# Altium schematic symbol library kmilo17pet-PIC16_Part2.SchLib: 1569 symbols (part 35 of 56)
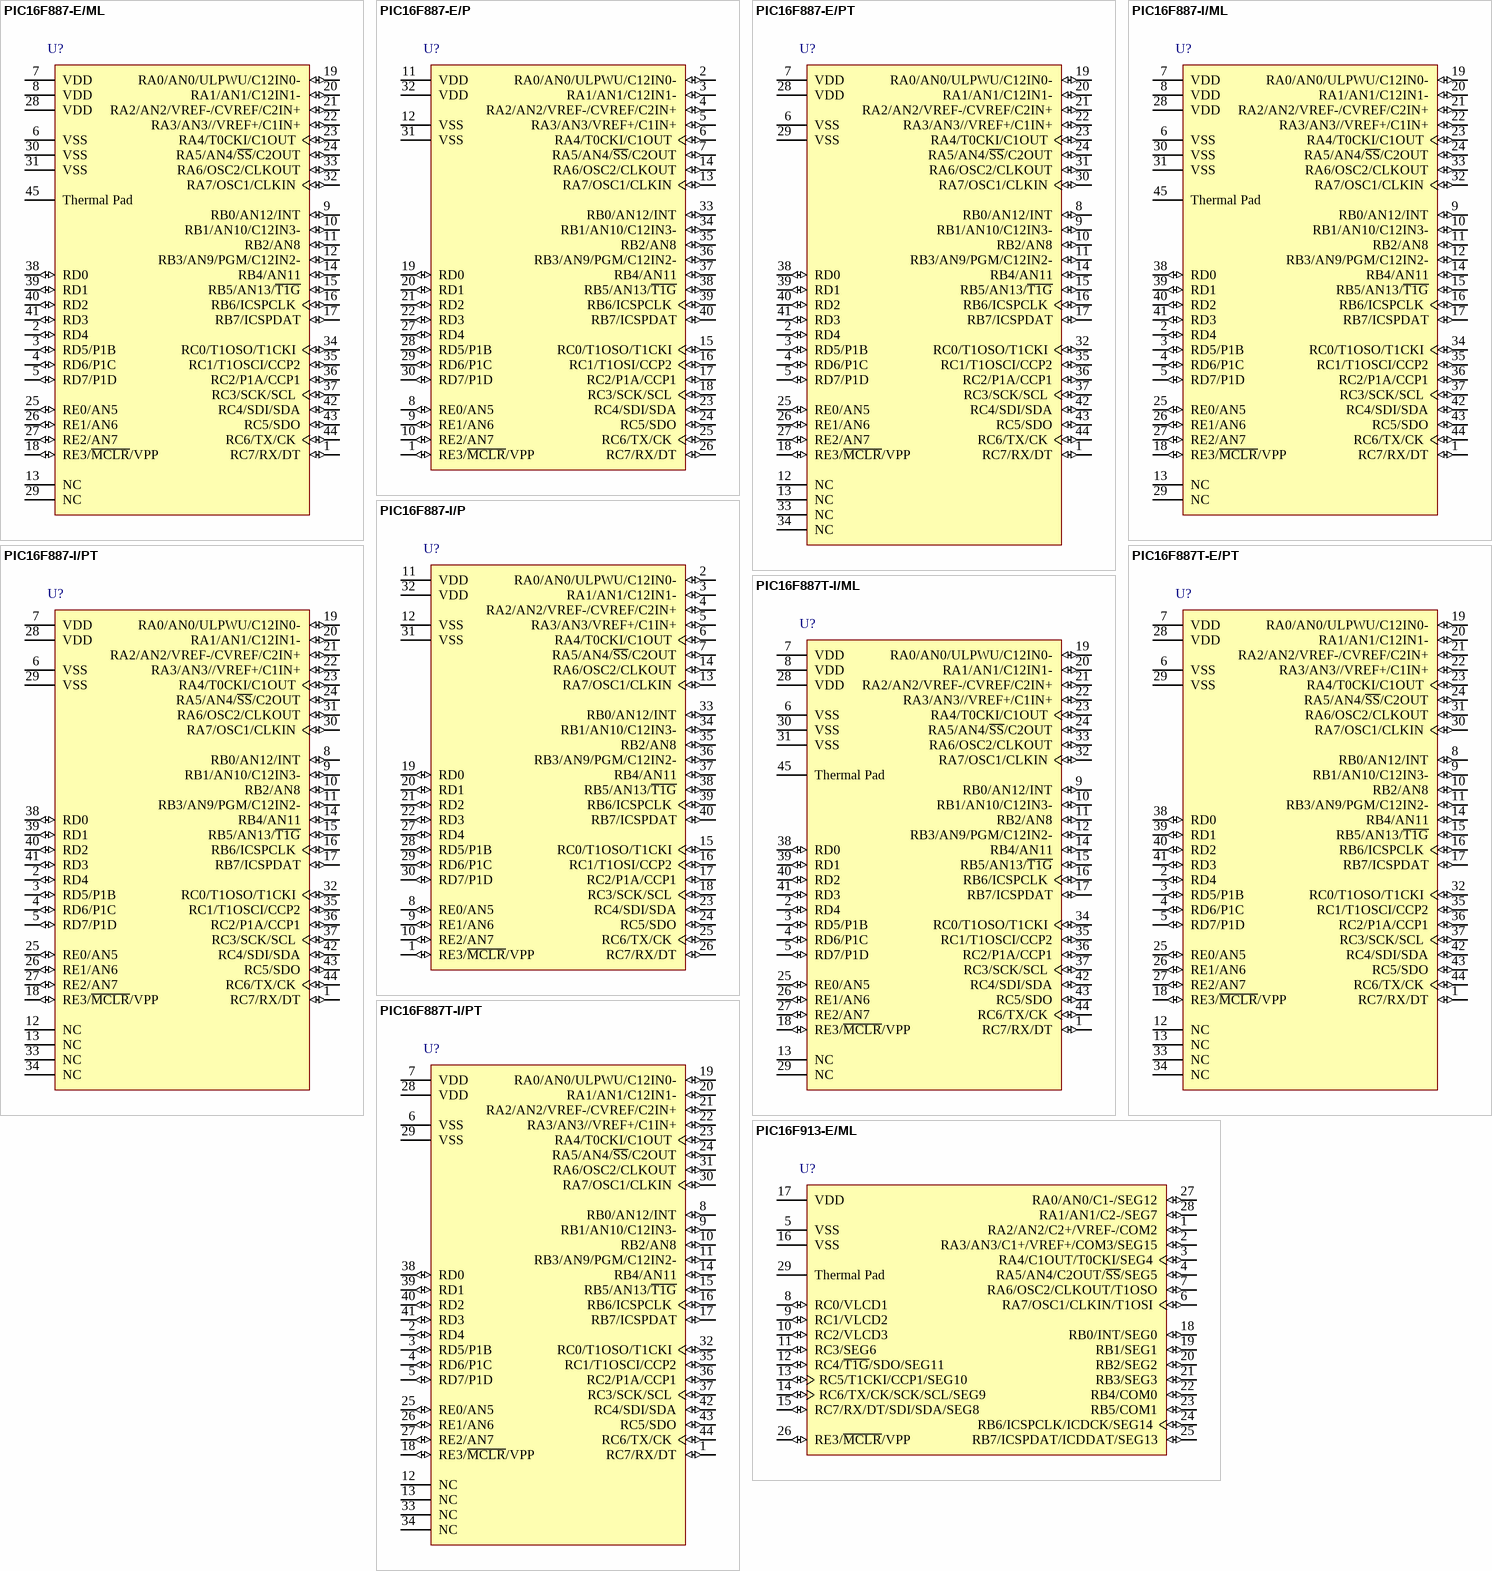
[diagram p159: symbols PIC16F887-E/ML to PIC16F913-E/ML]

## PIC16F887-I/P
designator U?
Flash-Based, 8-Bit CMOS Microcontroller with nanoWatt Technology, 8K (x14-Bit words) Program Memory, 624 Bytes Data Memory, 35 I/O pins, 40-Pin PDIP, Standard VDD Range, Industrial Temperature; Manufacturer: Microchip; PartNumber: PIC16F887-I/P; DatasheetVersion: revF, Apr-2009; PackageVersion: revBB, Aug-2009; PackageReference: PDIP600-P40; PackageDescription: 40-Lead Plastic Dual In-Line (P) - 600 mil Body [PDIP]; Supplier 1: Digi-Key; Supplier Part Number 1: PIC16F887-I/P-ND; Supplier 2: Farnell; Supplier Part Number 2: 1439541; Supplier 3: Newark; Supplier Part Number 3: 27M9657; Supplier 4: Mouser; Supplier Part Number 4: 579-PIC16F887-I/P; ComponentLink1Description: Manufacturer URL; ComponentLink1URL: http://www.microchip.com/; ComponentLink2Description: Datasheet; ComponentLink2URL: http://ww1.microchip.com/downloads/en/DeviceDoc/41291F.pdf; ComponentLink3Description: Package Specification; ComponentLink3URL: http://www.microchip.com/stellent/groups/techpub_sg/documents/packagingspec/en012702.pdf
footprint PDIP600-P40 (DIP, 40-Leads, Row Spacing 15.24mm, Pitch 2.54mm, Body 51.8x13.5mm)
pins: 1 RE3/~{MCLR}/VPP (io), 2 RA0/AN0/ULPWU/C12IN0- (io), 3 RA1/AN1/C12IN1- (io), 4 RA2/AN2/VREF-/CVREF/C2IN+ (io), 5 RA3/AN3/VREF+/C1IN+ (io), 6 RA4/T0CKI/C1OUT (io), 7 RA5/AN4/~{SS}/C2OUT (io), 8 RE0/AN5 (io), 9 RE1/AN6 (io), 10 RE2/AN7 (io), 11 VDD (power), 12 VSS (power), 13 RA7/OSC1/CLKIN (io), 14 RA6/OSC2/CLKOUT (io), 15 RC0/T1OSO/T1CKI (io), 16 RC1/T1OSI/CCP2 (io), 17 RC2/P1A/CCP1 (io), 18 RC3/SCK/SCL (io), 19 RD0 (io), 20 RD1 (io), 21 RD2 (io), 22 RD3 (io), 23 RC4/SDI/SDA (io), 24 RC5/SDO (io), 25 RC6/TX/CK (io), 26 RC7/RX/DT (io), 27 RD4 (io), 28 RD5/P1B (io), 29 RD6/P1C (io), 30 RD7/P1D (io), 31 VSS (power), 32 VDD (power), 33 RB0/AN12/INT (io), 34 RB1/AN10/C12IN3- (io), 35 RB2/AN8 (io), 36 RB3/AN9/PGM/C12IN2- (io), 37 RB4/AN11 (io), 38 RB5/AN13/~{T1G} (io), 39 RB6/ICSPCLK (io), 40 RB7/ICSPDAT (io)

## PIC16F887-I/PT
designator U?
Flash-Based, 8-Bit CMOS Microcontroller with nanoWatt Technology, 8K (x14-Bit words) Program Memory, 624 Bytes Data Memory, 35 I/O pins, 44-Pin TQFP, Standard VDD Range, Industrial Temperature; Manufacturer: Microchip; PartNumber: PIC16F887-I/PT; DatasheetVersion: revF, Apr-2009; PackageVersion: revBB, Aug-2009; PackageReference: TQFP-PT44; PackageDescription: 44-Lead Plastic Thin Quad Flatpack (PT) - 10x10x1mm Body, 2.00mm [TQFP]; Supplier 1: Digi-Key; Supplier Part Number 1: PIC16F887-I/PT-ND; Supplier 2: Farnell; Supplier Part Number 2: 1668740; Supplier 3: Farnell; Supplier Part Number 3: 1439542MPKG; Supplier 4: Farnell; Supplier Part Number 4: 1439542; Supplier 5: Farnell; Supplier Part Number 5: 1668740MPKG; Supplier 6: Newark; Supplier Part Number 6: 74K8587; Supplier 7: Mouser; Supplier Part Number 7: 579-PIC16F887-I/PT; Code_JEDEC: MS-026; ComponentLink1Description: Manufacturer URL; ComponentLink1URL: http://www.microchip.com/; ComponentLink2Description: Datasheet; ComponentLink2URL: http://ww1.microchip.com/downloads/en/DeviceDoc/41291F.pdf; ComponentLink3Description: Package Specification; ComponentLink3URL: http://www.microchip.com/stellent/groups/techpub_sg/documents/packagingspec/en012702.pdf
footprint TQFP-PT44_N (Thin QFP, 44-Leads, Body 10x10mm, Pitch 0.8mm, IPC Medium Density)
footprint TQFP-PT44_L (Thin QFP, 44-Leads, Body 10x10mm, Pitch 0.8mm, IPC High Density)
footprint TQFP-PT44_M (Thin QFP, 44-Leads, Body 10x10mm, Pitch 0.8mm, IPC Low Density)
pins: 1 RC7/RX/DT (io), 2 RD4 (io), 3 RD5/P1B (io), 4 RD6/P1C (io), 5 RD7/P1D (io), 6 VSS (power), 7 VDD (power), 8 RB0/AN12/INT (io), 9 RB1/AN10/C12IN3- (io), 10 RB2/AN8 (io), 11 RB3/AN9/PGM/C12IN2- (io), 12 NC, 13 NC, 14 RB4/AN11 (io), 15 RB5/AN13/~{T1G} (io), 16 RB6/ICSPCLK (io), 17 RB7/ICSPDAT (io), 18 RE3/~{MCLR}/VPP (io), 19 RA0/AN0/ULPWU/C12IN0- (io), 20 RA1/AN1/C12IN1- (io), 21 RA2/AN2/VREF-/CVREF/C2IN+ (io), 22 RA3/AN3//VREF+/C1IN+ (io), 23 RA4/T0CKI/C1OUT (io), 24 RA5/AN4/~{SS}/C2OUT (io), 25 RE0/AN5 (io), 26 RE1/AN6 (io), 27 RE2/AN7 (io), 28 VDD (power), 29 VSS (power), 30 RA7/OSC1/CLKIN (io), 31 RA6/OSC2/CLKOUT (io), 32 RC0/T1OSO/T1CKI (io), 33 NC, 34 NC, 35 RC1/T1OSCI/CCP2 (io), 36 RC2/P1A/CCP1 (io), 37 RC3/SCK/SCL (io), 38 RD0 (io), 39 RD1 (io), 40 RD2 (io), 41 RD3 (io), 42 RC4/SDI/SDA (io), 43 RC5/SDO (io), 44 RC6/TX/CK (io)

## PIC16F887T-E/PT
designator U?
Flash-Based, 8-Bit CMOS Microcontroller with nanoWatt Technology, 8K (x14-Bit words) Program Memory, 624 Bytes Data Memory, 35 I/O pins, 44-Pin TQFP, Standard VDD Range, Extended Temperature, Tape and Reel; Manufacturer: Microchip; PartNumber: PIC16F887T-E/PT; DatasheetVersion: revF, Apr-2009; PackageVersion: revBB, Aug-2009; PackageReference: TQFP-PT44; PackageDescription: 44-Lead Plastic Thin Quad Flatpack (PT) - 10x10x1mm Body, 2.00mm [TQFP]; Code_JEDEC: MS-026; ComponentLink1Description: Manufacturer URL; ComponentLink1URL: http://www.microchip.com/; ComponentLink2Description: Datasheet; ComponentLink2URL: http://ww1.microchip.com/downloads/en/DeviceDoc/41291F.pdf; ComponentLink3Description: Package Specification; ComponentLink3URL: http://www.microchip.com/stellent/groups/techpub_sg/documents/packagingspec/en012702.pdf
footprint TQFP-PT44_N (Thin QFP, 44-Leads, Body 10x10mm, Pitch 0.8mm, IPC Medium Density)
footprint TQFP-PT44_L (Thin QFP, 44-Leads, Body 10x10mm, Pitch 0.8mm, IPC High Density)
footprint TQFP-PT44_M (Thin QFP, 44-Leads, Body 10x10mm, Pitch 0.8mm, IPC Low Density)
pins: 1 RC7/RX/DT (io), 2 RD4 (io), 3 RD5/P1B (io), 4 RD6/P1C (io), 5 RD7/P1D (io), 6 VSS (power), 7 VDD (power), 8 RB0/AN12/INT (io), 9 RB1/AN10/C12IN3- (io), 10 RB2/AN8 (io), 11 RB3/AN9/PGM/C12IN2- (io), 12 NC, 13 NC, 14 RB4/AN11 (io), 15 RB5/AN13/~{T1G} (io), 16 RB6/ICSPCLK (io), 17 RB7/ICSPDAT (io), 18 RE3/~{MCLR}/VPP (io), 19 RA0/AN0/ULPWU/C12IN0- (io), 20 RA1/AN1/C12IN1- (io), 21 RA2/AN2/VREF-/CVREF/C2IN+ (io), 22 RA3/AN3//VREF+/C1IN+ (io), 23 RA4/T0CKI/C1OUT (io), 24 RA5/AN4/~{SS}/C2OUT (io), 25 RE0/AN5 (io), 26 RE1/AN6 (io), 27 RE2/AN7 (io), 28 VDD (power), 29 VSS (power), 30 RA7/OSC1/CLKIN (io), 31 RA6/OSC2/CLKOUT (io), 32 RC0/T1OSO/T1CKI (io), 33 NC, 34 NC, 35 RC1/T1OSCI/CCP2 (io), 36 RC2/P1A/CCP1 (io), 37 RC3/SCK/SCL (io), 38 RD0 (io), 39 RD1 (io), 40 RD2 (io), 41 RD3 (io), 42 RC4/SDI/SDA (io), 43 RC5/SDO (io), 44 RC6/TX/CK (io)

## PIC16F887T-I/ML
designator U?
Flash-Based, 8-Bit CMOS Microcontroller with nanoWatt Technology, 8K (x14-Bit words) Program Memory, 624 Bytes Data Memory, 35 I/O pins, 44-Pin QFN, Standard VDD Range, Industrial Temperature, Tape and Reel; Manufacturer: Microchip; PartNumber: PIC16F887T-I/ML; DatasheetVersion: revF, Apr-2009; PackageVersion: revBB, Aug-2009; PackageReference: QFN-ML44; PackageDescription: 44-Lead Plastic Quad Flat, No Lead Package (ML) - 8x8 mm Body [QFN]; Supplier 1: Digi-Key; Supplier Part Number 1: PIC16F887T-I/ML-ND; Supplier 2: Mouser; Supplier Part Number 2: 579-PIC16F887T-I/ML; Code_JEDEC: MO-220; Code_IPC: QFN65P800X800-44V2; ComponentLink1Description: Manufacturer URL; ComponentLink1URL: http://www.microchip.com/; ComponentLink2Description: Datasheet; ComponentLink2URL: http://ww1.microchip.com/downloads/en/DeviceDoc/41291F.pdf; ComponentLink3Description: Package Specification; ComponentLink3URL: http://www.microchip.com/stellent/groups/techpub_sg/documents/packagingspec/en012702.pdf
footprint QFN-ML44_N (QFN, 44-Leads, Body 8x8mm, Pitch 0.65mm, Thermal Pad 6.8x6.8mm, IPC Medium Density)
footprint QFN-ML44_L (QFN, 44-Leads, Body 8x8mm, Pitch 0.65mm, Thermal Pad 6.8x6.8mm, IPC High Density)
footprint QFN-ML44_M (QFN, 44-Leads, Body 8x8mm, Pitch 0.65mm, Thermal Pad 6.8x6.8mm, IPC Low Density)
pins: 1 RC7/RX/DT (io), 2 RD4 (io), 3 RD5/P1B (io), 4 RD6/P1C (io), 5 RD7/P1D (io), 6 VSS (power), 7 VDD (power), 8 VDD (power), 9 RB0/AN12/INT (io), 10 RB1/AN10/C12IN3- (io), 11 RB2/AN8 (io), 12 RB3/AN9/PGM/C12IN2- (io), 13 NC, 14 RB4/AN11 (io), 15 RB5/AN13/~{T1G} (io), 16 RB6/ICSPCLK (io), 17 RB7/ICSPDAT (io), 18 RE3/~{MCLR}/VPP (io), 19 RA0/AN0/ULPWU/C12IN0- (io), 20 RA1/AN1/C12IN1- (io), 21 RA2/AN2/VREF-/CVREF/C2IN+ (io), 22 RA3/AN3//VREF+/C1IN+ (io), 23 RA4/T0CKI/C1OUT (io), 24 RA5/AN4/~{SS}/C2OUT (io), 25 RE0/AN5 (io), 26 RE1/AN6 (io), 27 RE2/AN7 (io), 28 VDD (power), 29 NC, 30 VSS (power), 31 VSS (power), 32 RA7/OSC1/CLKIN (io), 33 RA6/OSC2/CLKOUT (io), 34 RC0/T1OSO/T1CKI (io), 35 RC1/T1OSCI/CCP2 (io), 36 RC2/P1A/CCP1 (io), 37 RC3/SCK/SCL (io), 38 RD0 (io), 39 RD1 (io), 40 RD2 (io), 41 RD3 (io), 42 RC4/SDI/SDA (io), 43 RC5/SDO (io), 44 RC6/TX/CK (io), 45 Thermal Pad

## PIC16F887T-I/PT
designator U?
Flash-Based, 8-Bit CMOS Microcontroller with nanoWatt Technology, 8K (x14-Bit words) Program Memory, 624 Bytes Data Memory, 35 I/O pins, 44-Pin TQFP, Standard VDD Range, Industrial Temperature, Tape and Reel; Manufacturer: Microchip; PartNumber: PIC16F887T-I/PT; Note: The CCP1 pin is determined by CCPMX in Configuration Word 1 register.; DatasheetVersion: revF, Apr-2009; PackageVersion: revBB, Aug-2009; PackageReference: TQFP-PT44; PackageDescription: 44-Lead Plastic Thin Quad Flatpack (PT) - 10x10x1mm Body, 2.00mm [TQFP]; Supplier 1: Digi-Key; Supplier Part Number 1: PIC16F887T-I/PT-ND; Supplier 2: Newark; Supplier Part Number 2: 86W6453; Supplier 3: Newark; Supplier Part Number 3: 74K8589; Supplier 4: Mouser; Supplier Part Number 4: 579-PIC16F887T-I/PT; Code_JEDEC: MS-026; ComponentLink1Description: Manufacturer URL; ComponentLink1URL: http://www.microchip.com/; ComponentLink2Description: Datasheet; ComponentLink2URL: http://ww1.microchip.com/downloads/en/DeviceDoc/41291F.pdf; ComponentLink3Description: Package Specification; ComponentLink3URL: http://www.microchip.com/stellent/groups/techpub_sg/documents/packagingspec/en012702.pdf
footprint TQFP-PT44_N (Thin QFP, 44-Leads, Body 10x10mm, Pitch 0.8mm, IPC Medium Density)
footprint TQFP-PT44_L (Thin QFP, 44-Leads, Body 10x10mm, Pitch 0.8mm, IPC High Density)
footprint TQFP-PT44_M (Thin QFP, 44-Leads, Body 10x10mm, Pitch 0.8mm, IPC Low Density)
pins: 1 RC7/RX/DT (io), 2 RD4 (io), 3 RD5/P1B (io), 4 RD6/P1C (io), 5 RD7/P1D (io), 6 VSS (power), 7 VDD (power), 8 RB0/AN12/INT (io), 9 RB1/AN10/C12IN3- (io), 10 RB2/AN8 (io), 11 RB3/AN9/PGM/C12IN2- (io), 12 NC, 13 NC, 14 RB4/AN11 (io), 15 RB5/AN13/~{T1G} (io), 16 RB6/ICSPCLK (io), 17 RB7/ICSPDAT (io), 18 RE3/~{MCLR}/VPP (io), 19 RA0/AN0/ULPWU/C12IN0- (io), 20 RA1/AN1/C12IN1- (io), 21 RA2/AN2/VREF-/CVREF/C2IN+ (io), 22 RA3/AN3//VREF+/C1IN+ (io), 23 RA4/T0CKI/C1OUT (io), 24 RA5/AN4/~{SS}/C2OUT (io), 25 RE0/AN5 (io), 26 RE1/AN6 (io), 27 RE2/AN7 (io), 28 VDD (power), 29 VSS (power), 30 RA7/OSC1/CLKIN (io), 31 RA6/OSC2/CLKOUT (io), 32 RC0/T1OSO/T1CKI (io), 33 NC, 34 NC, 35 RC1/T1OSCI/CCP2 (io), 36 RC2/P1A/CCP1 (io), 37 RC3/SCK/SCL (io), 38 RD0 (io), 39 RD1 (io), 40 RD2 (io), 41 RD3 (io), 42 RC4/SDI/SDA (io), 43 RC5/SDO (io), 44 RC6/TX/CK (io)

## PIC16F913-E/ML
designator U?
Flash-Based, 8-Bit CMOS Microcontroller with LCD Driver and nanoWatt Technology, 4K (x14-Bit words) Program Memory, 512 Bytes Data Memory, 24 I/O pins, 28-Pin QFN, Standard VDD Range, Extended Temperature; Manufacturer: Microchip; PartNumber: PIC16F913-E/ML; DatasheetVersion: revF, May-2007; PackageVersion: revBB, Aug-2009; PackageReference: QFN-ML28; PackageDescription: 28-Lead Plastic Quad Flat, No Lead Package (ML) - 6x6 mm Body [QFN] with 0.55 mm Contact Length; Supplier 1: Digi-Key; Supplier Part Number 1: PIC16F913-E/ML-ND; Supplier 2: Mouser; Supplier Part Number 2: 579-PIC16F913-E/ML; Code_JEDEC: MO-220; ComponentLink1Description: Manufacturer URL; ComponentLink1URL: http://www.microchip.com/; ComponentLink2Description: Datasheet; ComponentLink2URL: http://ww1.microchip.com/downloads/en/DeviceDoc/41250F.pdf; ComponentLink3Description: Package Specification; ComponentLink3URL: http://www.microchip.com/stellent/groups/techpub_sg/documents/packagingspec/en012702.pdf
footprint QFN-ML28_N (QFN, 28-Leads, Body 6x6mm, Pitch 0.65mm, Thermal Pad 4.2x4.2mm, IPC Medium Density)
footprint QFN-ML28_L (QFN, 28-Leads, Body 6x6mm, Pitch 0.65mm, Thermal Pad 4.2x4.2mm, IPC High Density)
footprint QFN-ML28_M (QFN, 28-Leads, Body 6x6mm, Pitch 0.65mm, Thermal Pad 4.2x4.2mm, IPC Low Density)
pins: 1 RA2/AN2/C2+/VREF-/COM2 (io), 2 RA3/AN3/C1+/VREF+/COM3/SEG15 (io), 3 RA4/C1OUT/T0CKI/SEG4 (io), 4 RA5/AN4/C2OUT/~{SS}/SEG5 (io), 5 VSS (power), 6 RA7/OSC1/CLKIN/T1OSI (io), 7 RA6/OSC2/CLKOUT/T1OSO (io), 8 RC0/VLCD1 (io), 9 RC1/VLCD2 (io), 10 RC2/VLCD3 (io), 11 RC3/SEG6 (io), 12 RC4/~{T1G}/SDO/SEG11 (io), 13 RC5/T1CKI/CCP1/SEG10 (io), 14 RC6/TX/CK/SCK/SCL/SEG9 (io), 15 RC7/RX/DT/SDI/SDA/SEG8 (io), 16 VSS (power), 17 VDD (power), 18 RB0/INT/SEG0 (io), 19 RB1/SEG1 (io), 20 RB2/SEG2 (io), 21 RB3/SEG3 (io), 22 RB4/COM0 (io), 23 RB5/COM1 (io), 24 RB6/ICSPCLK/ICDCK/SEG14 (io), 25 RB7/ICSPDAT/ICDDAT/SEG13 (io), 26 RE3/~{MCLR}/VPP (io), 27 RA0/AN0/C1-/SEG12 (io), 28 RA1/AN1/C2-/SEG7 (io), 29 Thermal Pad

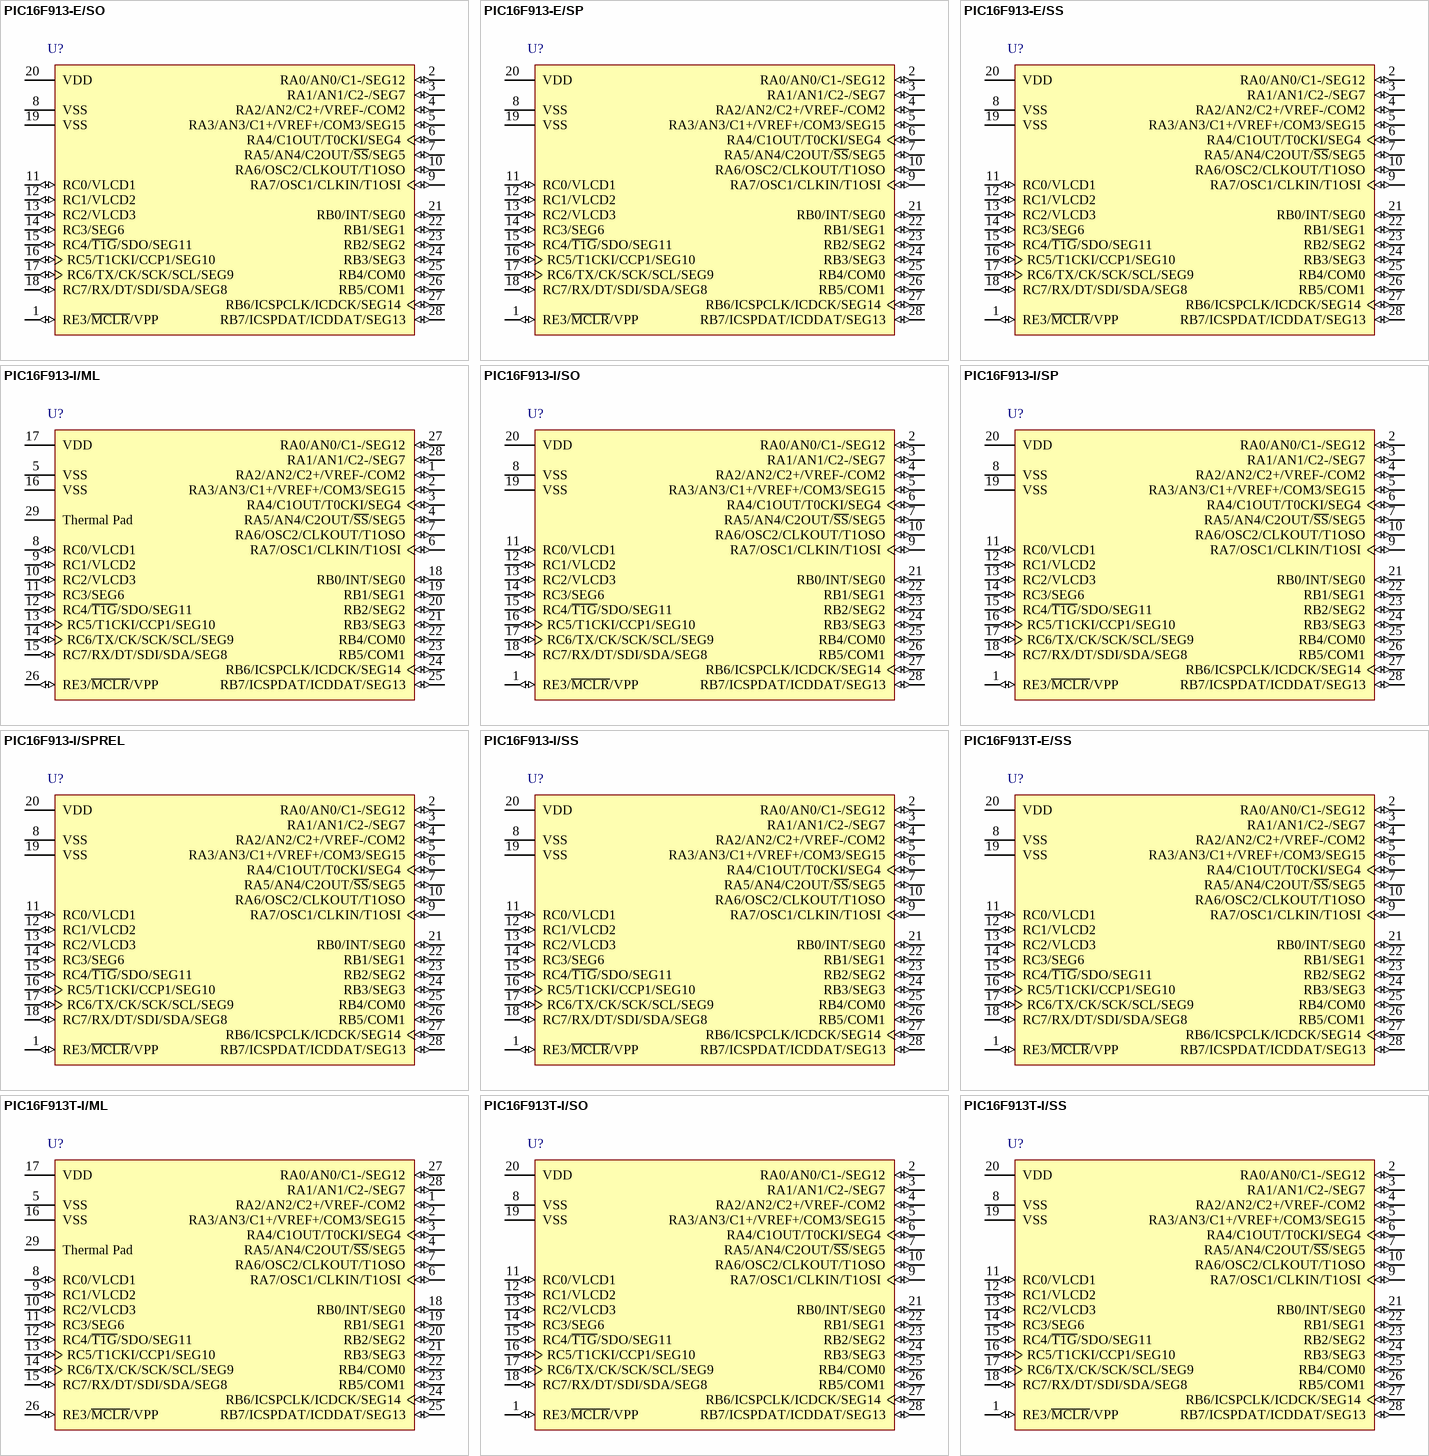
[diagram p71: symbols PIC16F913-E/SO to PIC16F913T-I/SS]

## PIC16F913-E/SO
designator U?
Flash-Based, 8-Bit CMOS Microcontroller with LCD Driver and nanoWatt Technology, 4K (x14-Bit words) Program Memory, 512 Bytes Data Memory, 24 I/O pins, 28-Pin SOIC, Standard VDD Range, Extended Temperature; Manufacturer: Microchip; PartNumber: PIC16F913-E/SO; DatasheetVersion: revF, May-2007; PackageVersion: revBB, Aug-2009; PackageReference: SOIC-SO28; PackageDescription: 28-Lead Plastic Small Outline (SO) - Wide 7.50mm Body [SOIC]; Supplier 1: Digi-Key; Supplier Part Number 1: PIC16F913-E/SO-ND; Supplier 2: Mouser; Supplier Part Number 2: 579-PIC16F913-E/SO; Code_JEDEC: MS-013; ComponentLink1Description: Manufacturer URL; ComponentLink1URL: http://www.microchip.com/; ComponentLink2Description: Datasheet; ComponentLink2URL: http://ww1.microchip.com/downloads/en/DeviceDoc/41250F.pdf; ComponentLink3Description: Package Specification; ComponentLink3URL: http://www.microchip.com/stellent/groups/techpub_sg/documents/packagingspec/en012702.pdf
footprint SOIC-SO28_N (SOIC, 28-Leads, Body 17.9x7.5mm, Pitch 1.27mm, IPC Medium Density)
footprint SOIC-SO28_L (SOIC, 28-Leads, Body 17.9x7.5mm, Pitch 1.27mm, IPC High Density)
footprint SOIC-SO28_M (SOIC, 28-Leads, Body 17.9x7.5mm, Pitch 1.27mm, IPC Low Density)
pins: 1 RE3/~{MCLR}/VPP (io), 2 RA0/AN0/C1-/SEG12 (io), 3 RA1/AN1/C2-/SEG7 (io), 4 RA2/AN2/C2+/VREF-/COM2 (io), 5 RA3/AN3/C1+/VREF+/COM3/SEG15 (io), 6 RA4/C1OUT/T0CKI/SEG4 (io), 7 RA5/AN4/C2OUT/~{SS}/SEG5 (io), 8 VSS (power), 9 RA7/OSC1/CLKIN/T1OSI (io), 10 RA6/OSC2/CLKOUT/T1OSO (io), 11 RC0/VLCD1 (io), 12 RC1/VLCD2 (io), 13 RC2/VLCD3 (io), 14 RC3/SEG6 (io), 15 RC4/~{T1G}/SDO/SEG11 (io), 16 RC5/T1CKI/CCP1/SEG10 (io), 17 RC6/TX/CK/SCK/SCL/SEG9 (io), 18 RC7/RX/DT/SDI/SDA/SEG8 (io), 19 VSS (power), 20 VDD (power), 21 RB0/INT/SEG0 (io), 22 RB1/SEG1 (io), 23 RB2/SEG2 (io), 24 RB3/SEG3 (io), 25 RB4/COM0 (io), 26 RB5/COM1 (io), 27 RB6/ICSPCLK/ICDCK/SEG14 (io), 28 RB7/ICSPDAT/ICDDAT/SEG13 (io)

## PIC16F913-E/SP
designator U?
Flash-Based, 8-Bit CMOS Microcontroller with LCD Driver and nanoWatt Technology, 4K (x14-Bit words) Program Memory, 512 Bytes Data Memory, 24 I/O pins, 28-Pin SPDIP, Standard VDD Range, Extended Temperature; Manufacturer: Microchip; PartNumber: PIC16F913-E/SP; DatasheetVersion: revF, May-2007; PackageVersion: revBB, Aug-2009; PackageReference: SPDIP300-SP28; PackageDescription: 28-Lead Skinny Plastic Dual In-Line (SP) - 300 mil Body [SPDIP]; Supplier 1: Digi-Key; Supplier Part Number 1: PIC16F913-E/SP-ND; Supplier 2: Mouser; Supplier Part Number 2: 579-PIC16F913-E/SP; ComponentLink1Description: Manufacturer URL; ComponentLink1URL: http://www.microchip.com/; ComponentLink2Description: Datasheet; ComponentLink2URL: http://ww1.microchip.com/downloads/en/DeviceDoc/41250F.pdf; ComponentLink3Description: Package Specification; ComponentLink3URL: http://www.microchip.com/stellent/groups/techpub_sg/documents/packagingspec/en012702.pdf
footprint SPDIP300-SP28 (DIP, 28-Leads, Row Spacing 7.62mm, Pitch 2.54mm, Body 34.9x6.8mm)
pins: 1 RE3/~{MCLR}/VPP (io), 2 RA0/AN0/C1-/SEG12 (io), 3 RA1/AN1/C2-/SEG7 (io), 4 RA2/AN2/C2+/VREF-/COM2 (io), 5 RA3/AN3/C1+/VREF+/COM3/SEG15 (io), 6 RA4/C1OUT/T0CKI/SEG4 (io), 7 RA5/AN4/C2OUT/~{SS}/SEG5 (io), 8 VSS (power), 9 RA7/OSC1/CLKIN/T1OSI (io), 10 RA6/OSC2/CLKOUT/T1OSO (io), 11 RC0/VLCD1 (io), 12 RC1/VLCD2 (io), 13 RC2/VLCD3 (io), 14 RC3/SEG6 (io), 15 RC4/~{T1G}/SDO/SEG11 (io), 16 RC5/T1CKI/CCP1/SEG10 (io), 17 RC6/TX/CK/SCK/SCL/SEG9 (io), 18 RC7/RX/DT/SDI/SDA/SEG8 (io), 19 VSS (power), 20 VDD (power), 21 RB0/INT/SEG0 (io), 22 RB1/SEG1 (io), 23 RB2/SEG2 (io), 24 RB3/SEG3 (io), 25 RB4/COM0 (io), 26 RB5/COM1 (io), 27 RB6/ICSPCLK/ICDCK/SEG14 (io), 28 RB7/ICSPDAT/ICDDAT/SEG13 (io)

## PIC16F913-E/SS
designator U?
Flash-Based, 8-Bit CMOS Microcontroller with LCD Driver and nanoWatt Technology, 4K (x14-Bit words) Program Memory, 512 Bytes Data Memory, 24 I/O pins, 28-Pin SSOP, Standard VDD Range, Extended Temperature; Manufacturer: Microchip; PartNumber: PIC16F913-E/SS; DatasheetVersion: revF, May-2007; PackageVersion: revBB, Aug-2009; PackageReference: SSOP-SS28; PackageDescription: 28-Lead Plastic Shrink Small Outline (SS) - 5.3mm Body [SSOP]; Supplier 1: Digi-Key; Supplier Part Number 1: PIC16F913-E/SS-ND; Supplier 2: Mouser; Supplier Part Number 2: 579-PIC16F913-E/SS; Code_JEDEC: MS-150; ComponentLink1Description: Manufacturer URL; ComponentLink1URL: http://www.microchip.com/; ComponentLink2Description: Datasheet; ComponentLink2URL: http://ww1.microchip.com/downloads/en/DeviceDoc/41250F.pdf; ComponentLink3Description: Package Specification; ComponentLink3URL: http://www.microchip.com/stellent/groups/techpub_sg/documents/packagingspec/en012702.pdf
footprint SSOP-SS28_N (SOP, 28-Leads, Body 10.2x5.2mm, Pitch 0.65mm, IPC Medium Density)
footprint SSOP-SS28_L (SOP, 28-Leads, Body 10.2x5.2mm, Pitch 0.65mm, IPC High Density)
footprint SSOP-SS28_M (SOP, 28-Leads, Body 10.2x5.2mm, Pitch 0.65mm, IPC Low Density)
pins: 1 RE3/~{MCLR}/VPP (io), 2 RA0/AN0/C1-/SEG12 (io), 3 RA1/AN1/C2-/SEG7 (io), 4 RA2/AN2/C2+/VREF-/COM2 (io), 5 RA3/AN3/C1+/VREF+/COM3/SEG15 (io), 6 RA4/C1OUT/T0CKI/SEG4 (io), 7 RA5/AN4/C2OUT/~{SS}/SEG5 (io), 8 VSS (power), 9 RA7/OSC1/CLKIN/T1OSI (io), 10 RA6/OSC2/CLKOUT/T1OSO (io), 11 RC0/VLCD1 (io), 12 RC1/VLCD2 (io), 13 RC2/VLCD3 (io), 14 RC3/SEG6 (io), 15 RC4/~{T1G}/SDO/SEG11 (io), 16 RC5/T1CKI/CCP1/SEG10 (io), 17 RC6/TX/CK/SCK/SCL/SEG9 (io), 18 RC7/RX/DT/SDI/SDA/SEG8 (io), 19 VSS (power), 20 VDD (power), 21 RB0/INT/SEG0 (io), 22 RB1/SEG1 (io), 23 RB2/SEG2 (io), 24 RB3/SEG3 (io), 25 RB4/COM0 (io), 26 RB5/COM1 (io), 27 RB6/ICSPCLK/ICDCK/SEG14 (io), 28 RB7/ICSPDAT/ICDDAT/SEG13 (io)

## PIC16F913-I/ML
designator U?
Flash-Based, 8-Bit CMOS Microcontroller with LCD Driver and nanoWatt Technology, 4K (x14-Bit words) Program Memory, 512 Bytes Data Memory, 24 I/O pins, 28-Pin QFN, Standard VDD Range, Industrial Temperature; Manufacturer: Microchip; PartNumber: PIC16F913-I/ML; DatasheetVersion: revF, May-2007; PackageVersion: revBB, Aug-2009; PackageReference: QFN-ML28; PackageDescription: 28-Lead Plastic Quad Flat, No Lead Package (ML) - 6x6 mm Body [QFN] with 0.55 mm Contact Length; Supplier 1: Digi-Key; Supplier Part Number 1: PIC16F913-I/ML-ND; Supplier 2: Newark; Supplier Part Number 2: 56J7582; Supplier 3: Mouser; Supplier Part Number 3: 579-PIC16F913-I/ML; Code_JEDEC: MO-220; ComponentLink1Description: Manufacturer URL; ComponentLink1URL: http://www.microchip.com/; ComponentLink2Description: Datasheet; ComponentLink2URL: http://ww1.microchip.com/downloads/en/DeviceDoc/41250F.pdf; ComponentLink3Description: Package Specification; ComponentLink3URL: http://www.microchip.com/stellent/groups/techpub_sg/documents/packagingspec/en012702.pdf
footprint QFN-ML28_N (QFN, 28-Leads, Body 6x6mm, Pitch 0.65mm, Thermal Pad 4.2x4.2mm, IPC Medium Density)
footprint QFN-ML28_L (QFN, 28-Leads, Body 6x6mm, Pitch 0.65mm, Thermal Pad 4.2x4.2mm, IPC High Density)
footprint QFN-ML28_M (QFN, 28-Leads, Body 6x6mm, Pitch 0.65mm, Thermal Pad 4.2x4.2mm, IPC Low Density)
pins: 1 RA2/AN2/C2+/VREF-/COM2 (io), 2 RA3/AN3/C1+/VREF+/COM3/SEG15 (io), 3 RA4/C1OUT/T0CKI/SEG4 (io), 4 RA5/AN4/C2OUT/~{SS}/SEG5 (io), 5 VSS (power), 6 RA7/OSC1/CLKIN/T1OSI (io), 7 RA6/OSC2/CLKOUT/T1OSO (io), 8 RC0/VLCD1 (io), 9 RC1/VLCD2 (io), 10 RC2/VLCD3 (io), 11 RC3/SEG6 (io), 12 RC4/~{T1G}/SDO/SEG11 (io), 13 RC5/T1CKI/CCP1/SEG10 (io), 14 RC6/TX/CK/SCK/SCL/SEG9 (io), 15 RC7/RX/DT/SDI/SDA/SEG8 (io), 16 VSS (power), 17 VDD (power), 18 RB0/INT/SEG0 (io), 19 RB1/SEG1 (io), 20 RB2/SEG2 (io), 21 RB3/SEG3 (io), 22 RB4/COM0 (io), 23 RB5/COM1 (io), 24 RB6/ICSPCLK/ICDCK/SEG14 (io), 25 RB7/ICSPDAT/ICDDAT/SEG13 (io), 26 RE3/~{MCLR}/VPP (io), 27 RA0/AN0/C1-/SEG12 (io), 28 RA1/AN1/C2-/SEG7 (io), 29 Thermal Pad

## PIC16F913-I/SO
designator U?
Flash-Based, 8-Bit CMOS Microcontroller with LCD Driver and nanoWatt Technology, 4K (x14-Bit words) Program Memory, 512 Bytes Data Memory, 24 I/O pins, 28-Pin SOIC, Standard VDD Range, Industrial Temperature; Manufacturer: Microchip; PartNumber: PIC16F913-I/SO; DatasheetVersion: revF, May-2007; PackageVersion: revBB, Aug-2009; PackageReference: SOIC-SO28; PackageDescription: 28-Lead Plastic Small Outline (SO) - Wide 7.50mm Body [SOIC]; Supplier 1: Digi-Key; Supplier Part Number 1: PIC16F913-I/SO-ND; Supplier 2: Farnell; Supplier Part Number 2: 1292263; Supplier 3: Newark; Supplier Part Number 3: 56J7583; Supplier 4: Mouser; Supplier Part Number 4: 579-PIC16F913-I/SO; Code_JEDEC: MS-013; ComponentLink1Description: Manufacturer URL; ComponentLink1URL: http://www.microchip.com/; ComponentLink2Description: Datasheet; ComponentLink2URL: http://ww1.microchip.com/downloads/en/DeviceDoc/41250F.pdf; ComponentLink3Description: Package Specification; ComponentLink3URL: http://www.microchip.com/stellent/groups/techpub_sg/documents/packagingspec/en012702.pdf
footprint SOIC-SO28_N (SOIC, 28-Leads, Body 17.9x7.5mm, Pitch 1.27mm, IPC Medium Density)
footprint SOIC-SO28_L (SOIC, 28-Leads, Body 17.9x7.5mm, Pitch 1.27mm, IPC High Density)
footprint SOIC-SO28_M (SOIC, 28-Leads, Body 17.9x7.5mm, Pitch 1.27mm, IPC Low Density)
pins: 1 RE3/~{MCLR}/VPP (io), 2 RA0/AN0/C1-/SEG12 (io), 3 RA1/AN1/C2-/SEG7 (io), 4 RA2/AN2/C2+/VREF-/COM2 (io), 5 RA3/AN3/C1+/VREF+/COM3/SEG15 (io), 6 RA4/C1OUT/T0CKI/SEG4 (io), 7 RA5/AN4/C2OUT/~{SS}/SEG5 (io), 8 VSS (power), 9 RA7/OSC1/CLKIN/T1OSI (io), 10 RA6/OSC2/CLKOUT/T1OSO (io), 11 RC0/VLCD1 (io), 12 RC1/VLCD2 (io), 13 RC2/VLCD3 (io), 14 RC3/SEG6 (io), 15 RC4/~{T1G}/SDO/SEG11 (io), 16 RC5/T1CKI/CCP1/SEG10 (io), 17 RC6/TX/CK/SCK/SCL/SEG9 (io), 18 RC7/RX/DT/SDI/SDA/SEG8 (io), 19 VSS (power), 20 VDD (power), 21 RB0/INT/SEG0 (io), 22 RB1/SEG1 (io), 23 RB2/SEG2 (io), 24 RB3/SEG3 (io), 25 RB4/COM0 (io), 26 RB5/COM1 (io), 27 RB6/ICSPCLK/ICDCK/SEG14 (io), 28 RB7/ICSPDAT/ICDDAT/SEG13 (io)

## PIC16F913-I/SP
designator U?
Flash-Based, 8-Bit CMOS Microcontroller with LCD Driver and nanoWatt Technology, 4K (x14-Bit words) Program Memory, 512 Bytes Data Memory, 24 I/O pins, 28-Pin SPDIP, Standard VDD Range, Industrial Temperature; Manufacturer: Microchip; PartNumber: PIC16F913-I/SP; DatasheetVersion: revF, May-2007; PackageVersion: revBB, Aug-2009; PackageReference: SPDIP300-SP28; PackageDescription: 28-Lead Skinny Plastic Dual In-Line (SP) - 300 mil Body [SPDIP]; Supplier 1: Digi-Key; Supplier Part Number 1: PIC16F913-I/SP-ND; Supplier 2: Farnell; Supplier Part Number 2: 1292264; Supplier 3: Newark; Supplier Part Number 3: 56J7584; Supplier 4: Newark; Supplier Part Number 4: 24M5907; Supplier 5: Mouser; Supplier Part Number 5: 579-PIC16F913-I/SP; ComponentLink1Description: Manufacturer URL; ComponentLink1URL: http://www.microchip.com/; ComponentLink2Description: Datasheet; ComponentLink2URL: http://ww1.microchip.com/downloads/en/DeviceDoc/41250F.pdf; ComponentLink3Description: Package Specification; ComponentLink3URL: http://www.microchip.com/stellent/groups/techpub_sg/documents/packagingspec/en012702.pdf
footprint SPDIP300-SP28 (DIP, 28-Leads, Row Spacing 7.62mm, Pitch 2.54mm, Body 34.9x6.8mm)
pins: 1 RE3/~{MCLR}/VPP (io), 2 RA0/AN0/C1-/SEG12 (io), 3 RA1/AN1/C2-/SEG7 (io), 4 RA2/AN2/C2+/VREF-/COM2 (io), 5 RA3/AN3/C1+/VREF+/COM3/SEG15 (io), 6 RA4/C1OUT/T0CKI/SEG4 (io), 7 RA5/AN4/C2OUT/~{SS}/SEG5 (io), 8 VSS (power), 9 RA7/OSC1/CLKIN/T1OSI (io), 10 RA6/OSC2/CLKOUT/T1OSO (io), 11 RC0/VLCD1 (io), 12 RC1/VLCD2 (io), 13 RC2/VLCD3 (io), 14 RC3/SEG6 (io), 15 RC4/~{T1G}/SDO/SEG11 (io), 16 RC5/T1CKI/CCP1/SEG10 (io), 17 RC6/TX/CK/SCK/SCL/SEG9 (io), 18 RC7/RX/DT/SDI/SDA/SEG8 (io), 19 VSS (power), 20 VDD (power), 21 RB0/INT/SEG0 (io), 22 RB1/SEG1 (io), 23 RB2/SEG2 (io), 24 RB3/SEG3 (io), 25 RB4/COM0 (io), 26 RB5/COM1 (io), 27 RB6/ICSPCLK/ICDCK/SEG14 (io), 28 RB7/ICSPDAT/ICDDAT/SEG13 (io)

## PIC16F913-I/SPREL
designator U?
Flash-Based, 8-Bit CMOS Microcontroller with LCD Driver and nanoWatt Technology, 4K (x14-Bit words) Program Memory, 512 Bytes Data Memory, 24 I/O pins, 28-Pin SPDIP, Standard VDD Range, Industrial Temperature; Manufacturer: Microchip; PartNumber: PIC16F913-I/SPREL; DatasheetVersion: revF, May-2007; PackageVersion: revBB, Aug-2009; PackageReference: SPDIP300-SP28; PackageDescription: 28-Lead Skinny Plastic Dual In-Line (SP) - 300 mil Body [SPDIP]; ComponentLink1Description: Manufacturer URL; ComponentLink1URL: http://www.microchip.com/; ComponentLink2Description: Datasheet; ComponentLink2URL: http://ww1.microchip.com/downloads/en/DeviceDoc/41250F.pdf; ComponentLink3Description: Package Specification; ComponentLink3URL: http://www.microchip.com/stellent/groups/techpub_sg/documents/packagingspec/en012702.pdf
footprint SPDIP300-SP28 (DIP, 28-Leads, Row Spacing 7.62mm, Pitch 2.54mm, Body 34.9x6.8mm)
pins: 1 RE3/~{MCLR}/VPP (io), 2 RA0/AN0/C1-/SEG12 (io), 3 RA1/AN1/C2-/SEG7 (io), 4 RA2/AN2/C2+/VREF-/COM2 (io), 5 RA3/AN3/C1+/VREF+/COM3/SEG15 (io), 6 RA4/C1OUT/T0CKI/SEG4 (io), 7 RA5/AN4/C2OUT/~{SS}/SEG5 (io), 8 VSS (power), 9 RA7/OSC1/CLKIN/T1OSI (io), 10 RA6/OSC2/CLKOUT/T1OSO (io), 11 RC0/VLCD1 (io), 12 RC1/VLCD2 (io), 13 RC2/VLCD3 (io), 14 RC3/SEG6 (io), 15 RC4/~{T1G}/SDO/SEG11 (io), 16 RC5/T1CKI/CCP1/SEG10 (io), 17 RC6/TX/CK/SCK/SCL/SEG9 (io), 18 RC7/RX/DT/SDI/SDA/SEG8 (io), 19 VSS (power), 20 VDD (power), 21 RB0/INT/SEG0 (io), 22 RB1/SEG1 (io), 23 RB2/SEG2 (io), 24 RB3/SEG3 (io), 25 RB4/COM0 (io), 26 RB5/COM1 (io), 27 RB6/ICSPCLK/ICDCK/SEG14 (io), 28 RB7/ICSPDAT/ICDDAT/SEG13 (io)

## PIC16F913-I/SS
designator U?
Flash-Based, 8-Bit CMOS Microcontroller with LCD Driver and nanoWatt Technology, 4K (x14-Bit words) Program Memory, 512 Bytes Data Memory, 24 I/O pins, 28-Pin SSOP, Standard VDD Range, Industrial Temperature; Manufacturer: Microchip; PartNumber: PIC16F913-I/SS; DatasheetVersion: revF, May-2007; PackageVersion: revBB, Aug-2009; PackageReference: SSOP-SS28; PackageDescription: 28-Lead Plastic Shrink Small Outline (SS) - 5.3mm Body [SSOP]; Supplier 1: Digi-Key; Supplier Part Number 1: PIC16F913-I/SS-ND; Supplier 2: Farnell; Supplier Part Number 2: 1292265; Supplier 3: Newark; Supplier Part Number 3: 56J7585; Supplier 4: Mouser; Supplier Part Number 4: 579-PIC16F913-I/SS; Code_JEDEC: MS-150; ComponentLink1Description: Manufacturer URL; ComponentLink1URL: http://www.microchip.com/; ComponentLink2Description: Datasheet; ComponentLink2URL: http://ww1.microchip.com/downloads/en/DeviceDoc/41250F.pdf; ComponentLink3Description: Package Specification; ComponentLink3URL: http://www.microchip.com/stellent/groups/techpub_sg/documents/packagingspec/en012702.pdf
footprint SSOP-SS28_N (SOP, 28-Leads, Body 10.2x5.2mm, Pitch 0.65mm, IPC Medium Density)
footprint SSOP-SS28_L (SOP, 28-Leads, Body 10.2x5.2mm, Pitch 0.65mm, IPC High Density)
footprint SSOP-SS28_M (SOP, 28-Leads, Body 10.2x5.2mm, Pitch 0.65mm, IPC Low Density)
pins: 1 RE3/~{MCLR}/VPP (io), 2 RA0/AN0/C1-/SEG12 (io), 3 RA1/AN1/C2-/SEG7 (io), 4 RA2/AN2/C2+/VREF-/COM2 (io), 5 RA3/AN3/C1+/VREF+/COM3/SEG15 (io), 6 RA4/C1OUT/T0CKI/SEG4 (io), 7 RA5/AN4/C2OUT/~{SS}/SEG5 (io), 8 VSS (power), 9 RA7/OSC1/CLKIN/T1OSI (io), 10 RA6/OSC2/CLKOUT/T1OSO (io), 11 RC0/VLCD1 (io), 12 RC1/VLCD2 (io), 13 RC2/VLCD3 (io), 14 RC3/SEG6 (io), 15 RC4/~{T1G}/SDO/SEG11 (io), 16 RC5/T1CKI/CCP1/SEG10 (io), 17 RC6/TX/CK/SCK/SCL/SEG9 (io), 18 RC7/RX/DT/SDI/SDA/SEG8 (io), 19 VSS (power), 20 VDD (power), 21 RB0/INT/SEG0 (io), 22 RB1/SEG1 (io), 23 RB2/SEG2 (io), 24 RB3/SEG3 (io), 25 RB4/COM0 (io), 26 RB5/COM1 (io), 27 RB6/ICSPCLK/ICDCK/SEG14 (io), 28 RB7/ICSPDAT/ICDDAT/SEG13 (io)

## PIC16F913T-E/SS
designator U?
Flash-Based, 8-Bit CMOS Microcontroller with LCD Driver and nanoWatt Technology, 4K (x14-Bit words) Program Memory, 512 Bytes Data Memory, 24 I/O pins, 28-Pin SSOP, Standard VDD Range, Extended Temperature, Tape and Reel; Manufacturer: Microchip; PartNumber: PIC16F913T-E/SS; DatasheetVersion: revF, May-2007; PackageVersion: revBB, Aug-2009; PackageReference: SSOP-SS28; PackageDescription: 28-Lead Plastic Shrink Small Outline (SS) - 5.3mm Body [SSOP]; Code_JEDEC: MS-150; ComponentLink1Description: Manufacturer URL; ComponentLink1URL: http://www.microchip.com/; ComponentLink2Description: Datasheet; ComponentLink2URL: http://ww1.microchip.com/downloads/en/DeviceDoc/41250F.pdf; ComponentLink3Description: Package Specification; ComponentLink3URL: http://www.microchip.com/stellent/groups/techpub_sg/documents/packagingspec/en012702.pdf
footprint SSOP-SS28_N (SOP, 28-Leads, Body 10.2x5.2mm, Pitch 0.65mm, IPC Medium Density)
footprint SSOP-SS28_L (SOP, 28-Leads, Body 10.2x5.2mm, Pitch 0.65mm, IPC High Density)
footprint SSOP-SS28_M (SOP, 28-Leads, Body 10.2x5.2mm, Pitch 0.65mm, IPC Low Density)
pins: 1 RE3/~{MCLR}/VPP (io), 2 RA0/AN0/C1-/SEG12 (io), 3 RA1/AN1/C2-/SEG7 (io), 4 RA2/AN2/C2+/VREF-/COM2 (io), 5 RA3/AN3/C1+/VREF+/COM3/SEG15 (io), 6 RA4/C1OUT/T0CKI/SEG4 (io), 7 RA5/AN4/C2OUT/~{SS}/SEG5 (io), 8 VSS (power), 9 RA7/OSC1/CLKIN/T1OSI (io), 10 RA6/OSC2/CLKOUT/T1OSO (io), 11 RC0/VLCD1 (io), 12 RC1/VLCD2 (io), 13 RC2/VLCD3 (io), 14 RC3/SEG6 (io), 15 RC4/~{T1G}/SDO/SEG11 (io), 16 RC5/T1CKI/CCP1/SEG10 (io), 17 RC6/TX/CK/SCK/SCL/SEG9 (io), 18 RC7/RX/DT/SDI/SDA/SEG8 (io), 19 VSS (power), 20 VDD (power), 21 RB0/INT/SEG0 (io), 22 RB1/SEG1 (io), 23 RB2/SEG2 (io), 24 RB3/SEG3 (io), 25 RB4/COM0 (io), 26 RB5/COM1 (io), 27 RB6/ICSPCLK/ICDCK/SEG14 (io), 28 RB7/ICSPDAT/ICDDAT/SEG13 (io)

## PIC16F913T-I/ML
designator U?
Flash-Based, 8-Bit CMOS Microcontroller with LCD Driver and nanoWatt Technology, 4K (x14-Bit words) Program Memory, 512 Bytes Data Memory, 24 I/O pins, 28-Pin QFN, Standard VDD Range, Industrial Temperature, Tape and Reel; Manufacturer: Microchip; PartNumber: PIC16F913T-I/ML; DatasheetVersion: revF, May-2007; PackageVersion: revBB, Aug-2009; PackageReference: QFN-ML28; PackageDescription: 28-Lead Plastic Quad Flat, No Lead Package (ML) - 6x6 mm Body [QFN] with 0.55 mm Contact Length; Supplier 1: Digi-Key; Supplier Part Number 1: PIC16F913T-I/ML-ND; Supplier 2: Mouser; Supplier Part Number 2: 579-PIC16F913T-I/ML; Code_JEDEC: MO-220; ComponentLink1Description: Manufacturer URL; ComponentLink1URL: http://www.microchip.com/; ComponentLink2Description: Datasheet; ComponentLink2URL: http://ww1.microchip.com/downloads/en/DeviceDoc/41250F.pdf; ComponentLink3Description: Package Specification; ComponentLink3URL: http://www.microchip.com/stellent/groups/techpub_sg/documents/packagingspec/en012702.pdf
footprint QFN-ML28_N (QFN, 28-Leads, Body 6x6mm, Pitch 0.65mm, Thermal Pad 4.2x4.2mm, IPC Medium Density)
footprint QFN-ML28_L (QFN, 28-Leads, Body 6x6mm, Pitch 0.65mm, Thermal Pad 4.2x4.2mm, IPC High Density)
footprint QFN-ML28_M (QFN, 28-Leads, Body 6x6mm, Pitch 0.65mm, Thermal Pad 4.2x4.2mm, IPC Low Density)
pins: 1 RA2/AN2/C2+/VREF-/COM2 (io), 2 RA3/AN3/C1+/VREF+/COM3/SEG15 (io), 3 RA4/C1OUT/T0CKI/SEG4 (io), 4 RA5/AN4/C2OUT/~{SS}/SEG5 (io), 5 VSS (power), 6 RA7/OSC1/CLKIN/T1OSI (io), 7 RA6/OSC2/CLKOUT/T1OSO (io), 8 RC0/VLCD1 (io), 9 RC1/VLCD2 (io), 10 RC2/VLCD3 (io), 11 RC3/SEG6 (io), 12 RC4/~{T1G}/SDO/SEG11 (io), 13 RC5/T1CKI/CCP1/SEG10 (io), 14 RC6/TX/CK/SCK/SCL/SEG9 (io), 15 RC7/RX/DT/SDI/SDA/SEG8 (io), 16 VSS (power), 17 VDD (power), 18 RB0/INT/SEG0 (io), 19 RB1/SEG1 (io), 20 RB2/SEG2 (io), 21 RB3/SEG3 (io), 22 RB4/COM0 (io), 23 RB5/COM1 (io), 24 RB6/ICSPCLK/ICDCK/SEG14 (io), 25 RB7/ICSPDAT/ICDDAT/SEG13 (io), 26 RE3/~{MCLR}/VPP (io), 27 RA0/AN0/C1-/SEG12 (io), 28 RA1/AN1/C2-/SEG7 (io), 29 Thermal Pad

## PIC16F913T-I/SO
designator U?
Flash-Based, 8-Bit CMOS Microcontroller with LCD Driver and nanoWatt Technology, 4K (x14-Bit words) Program Memory, 512 Bytes Data Memory, 24 I/O pins, 28-Pin SOIC, Standard VDD Range, Industrial Temperature, Tape and Reel; Manufacturer: Microchip; PartNumber: PIC16F913T-I/SO; DatasheetVersion: revF, May-2007; PackageVersion: revBB, Aug-2009; PackageReference: SOIC-SO28; PackageDescription: 28-Lead Plastic Small Outline (SO) - Wide 7.50mm Body [SOIC]; Supplier 1: Digi-Key; Supplier Part Number 1: PIC16F913T-I/SO-ND; Supplier 2: Mouser; Supplier Part Number 2: 579-PIC16F913T-I/SO; Code_JEDEC: MS-013; ComponentLink1Description: Manufacturer URL; ComponentLink1URL: http://www.microchip.com/; ComponentLink2Description: Datasheet; ComponentLink2URL: http://ww1.microchip.com/downloads/en/DeviceDoc/41250F.pdf; ComponentLink3Description: Package Specification; ComponentLink3URL: http://www.microchip.com/stellent/groups/techpub_sg/documents/packagingspec/en012702.pdf
footprint SOIC-SO28_N (SOIC, 28-Leads, Body 17.9x7.5mm, Pitch 1.27mm, IPC Medium Density)
footprint SOIC-SO28_L (SOIC, 28-Leads, Body 17.9x7.5mm, Pitch 1.27mm, IPC High Density)
footprint SOIC-SO28_M (SOIC, 28-Leads, Body 17.9x7.5mm, Pitch 1.27mm, IPC Low Density)
pins: 1 RE3/~{MCLR}/VPP (io), 2 RA0/AN0/C1-/SEG12 (io), 3 RA1/AN1/C2-/SEG7 (io), 4 RA2/AN2/C2+/VREF-/COM2 (io), 5 RA3/AN3/C1+/VREF+/COM3/SEG15 (io), 6 RA4/C1OUT/T0CKI/SEG4 (io), 7 RA5/AN4/C2OUT/~{SS}/SEG5 (io), 8 VSS (power), 9 RA7/OSC1/CLKIN/T1OSI (io), 10 RA6/OSC2/CLKOUT/T1OSO (io), 11 RC0/VLCD1 (io), 12 RC1/VLCD2 (io), 13 RC2/VLCD3 (io), 14 RC3/SEG6 (io), 15 RC4/~{T1G}/SDO/SEG11 (io), 16 RC5/T1CKI/CCP1/SEG10 (io), 17 RC6/TX/CK/SCK/SCL/SEG9 (io), 18 RC7/RX/DT/SDI/SDA/SEG8 (io), 19 VSS (power), 20 VDD (power), 21 RB0/INT/SEG0 (io), 22 RB1/SEG1 (io), 23 RB2/SEG2 (io), 24 RB3/SEG3 (io), 25 RB4/COM0 (io), 26 RB5/COM1 (io), 27 RB6/ICSPCLK/ICDCK/SEG14 (io), 28 RB7/ICSPDAT/ICDDAT/SEG13 (io)

## PIC16F913T-I/SS
designator U?
Flash-Based, 8-Bit CMOS Microcontroller with LCD Driver and nanoWatt Technology, 4K (x14-Bit words) Program Memory, 512 Bytes Data Memory, 24 I/O pins, 28-Pin SSOP, Standard VDD Range, Industrial Temperature, Tape and Reel; Manufacturer: Microchip; PartNumber: PIC16F913T-I/SS; DatasheetVersion: revF, May-2007; PackageVersion: revBB, Aug-2009; PackageReference: SSOP-SS28; PackageDescription: 28-Lead Plastic Shrink Small Outline (SS) - 5.3mm Body [SSOP]; Supplier 1: Digi-Key; Supplier Part Number 1: PIC16F913T-I/SS-ND; Supplier 2: Mouser; Supplier Part Number 2: 579-PIC16F913T-I/SS; Code_JEDEC: MS-150; ComponentLink1Description: Manufacturer URL; ComponentLink1URL: http://www.microchip.com/; ComponentLink2Description: Datasheet; ComponentLink2URL: http://ww1.microchip.com/downloads/en/DeviceDoc/41250F.pdf; ComponentLink3Description: Package Specification; ComponentLink3URL: http://www.microchip.com/stellent/groups/techpub_sg/documents/packagingspec/en012702.pdf
footprint SSOP-SS28_N (SOP, 28-Leads, Body 10.2x5.2mm, Pitch 0.65mm, IPC Medium Density)
footprint SSOP-SS28_L (SOP, 28-Leads, Body 10.2x5.2mm, Pitch 0.65mm, IPC High Density)
footprint SSOP-SS28_M (SOP, 28-Leads, Body 10.2x5.2mm, Pitch 0.65mm, IPC Low Density)
pins: 1 RE3/~{MCLR}/VPP (io), 2 RA0/AN0/C1-/SEG12 (io), 3 RA1/AN1/C2-/SEG7 (io), 4 RA2/AN2/C2+/VREF-/COM2 (io), 5 RA3/AN3/C1+/VREF+/COM3/SEG15 (io), 6 RA4/C1OUT/T0CKI/SEG4 (io), 7 RA5/AN4/C2OUT/~{SS}/SEG5 (io), 8 VSS (power), 9 RA7/OSC1/CLKIN/T1OSI (io), 10 RA6/OSC2/CLKOUT/T1OSO (io), 11 RC0/VLCD1 (io), 12 RC1/VLCD2 (io), 13 RC2/VLCD3 (io), 14 RC3/SEG6 (io), 15 RC4/~{T1G}/SDO/SEG11 (io), 16 RC5/T1CKI/CCP1/SEG10 (io), 17 RC6/TX/CK/SCK/SCL/SEG9 (io), 18 RC7/RX/DT/SDI/SDA/SEG8 (io), 19 VSS (power), 20 VDD (power), 21 RB0/INT/SEG0 (io), 22 RB1/SEG1 (io), 23 RB2/SEG2 (io), 24 RB3/SEG3 (io), 25 RB4/COM0 (io), 26 RB5/COM1 (io), 27 RB6/ICSPCLK/ICDCK/SEG14 (io), 28 RB7/ICSPDAT/ICDDAT/SEG13 (io)

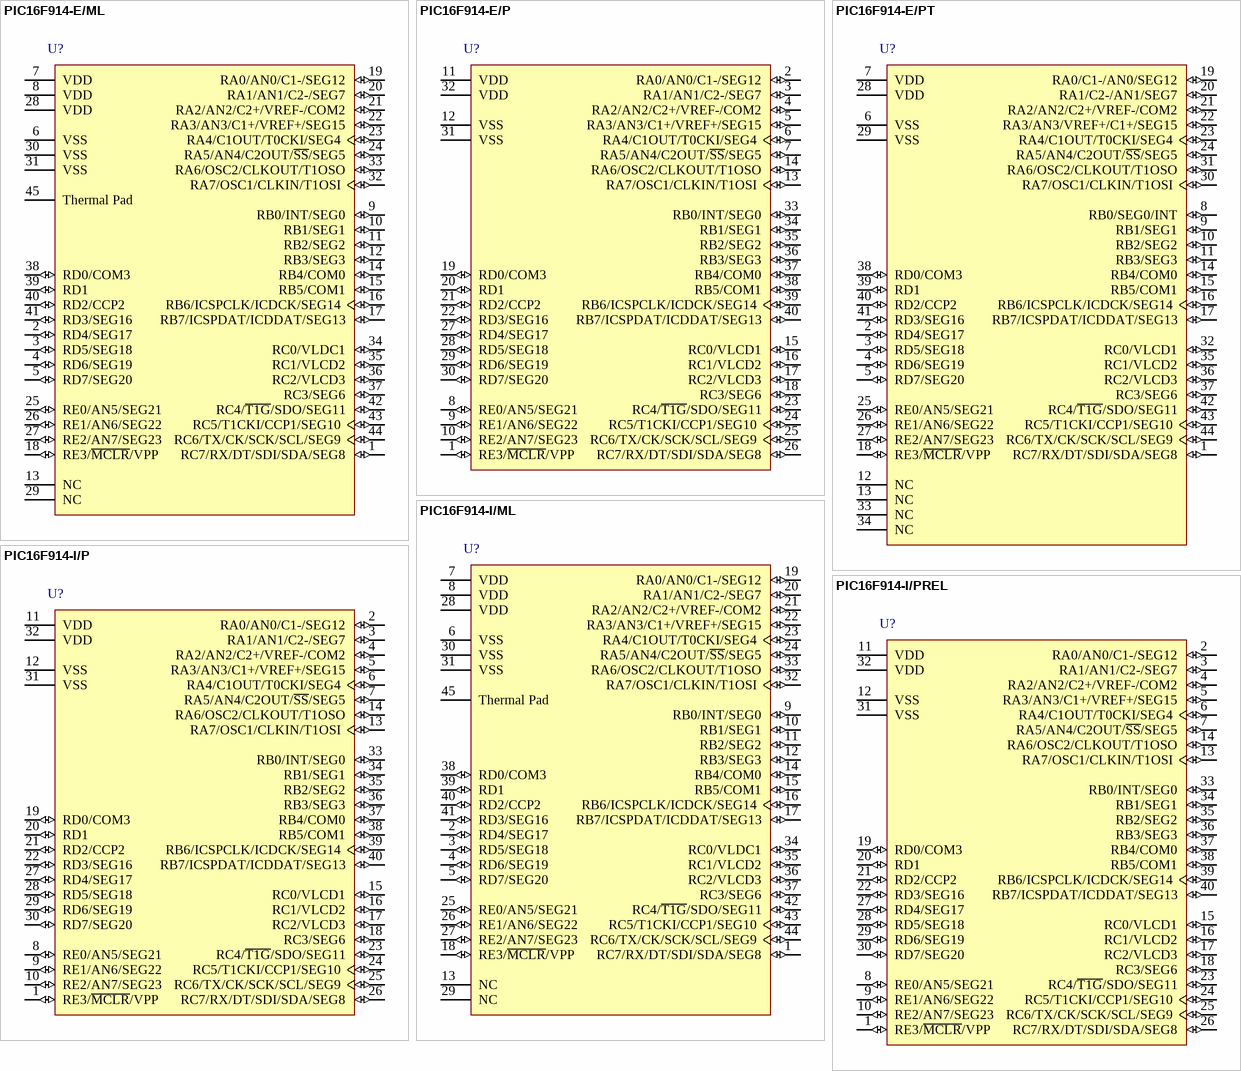
[diagram p72: symbols PIC16F914-E/ML to PIC16F914-I/PREL]

## PIC16F914-E/ML
designator U?
Flash-Based, 8-Bit CMOS Microcontroller with LCD Driver and nanoWatt Technology, 4K (x14-Bit words) Program Memory, 512 Bytes Data Memory, 35 I/O pins, 44-Pin QFN, Standard VDD Range, Extended Temperature; Manufacturer: Microchip; PartNumber: PIC16F914-E/ML; DatasheetVersion: revF, May-2007; PackageVersion: revBB, Aug-2009; PackageReference: QFN-ML44; PackageDescription: 44-Lead Plastic Quad Flat, No Lead Package (ML) - 8x8 mm Body [QFN]; Supplier 1: Digi-Key; Supplier Part Number 1: PIC16F914-E/ML-ND; Supplier 2: Mouser; Supplier Part Number 2: 579-PIC16F914-E/ML; Code_JEDEC: MO-220; Code_IPC: QFN65P800X800-44V2; ComponentLink1Description: Manufacturer URL; ComponentLink1URL: http://www.microchip.com/; ComponentLink2Description: Datasheet; ComponentLink2URL: http://ww1.microchip.com/downloads/en/DeviceDoc/41250F.pdf; ComponentLink3Description: Package Specification; ComponentLink3URL: http://www.microchip.com/stellent/groups/techpub_sg/documents/packagingspec/en012702.pdf
footprint QFN-ML44_N (QFN, 44-Leads, Body 8x8mm, Pitch 0.65mm, Thermal Pad 6.8x6.8mm, IPC Medium Density)
footprint QFN-ML44_L (QFN, 44-Leads, Body 8x8mm, Pitch 0.65mm, Thermal Pad 6.8x6.8mm, IPC High Density)
footprint QFN-ML44_M (QFN, 44-Leads, Body 8x8mm, Pitch 0.65mm, Thermal Pad 6.8x6.8mm, IPC Low Density)
pins: 1 RC7/RX/DT/SDI/SDA/SEG8 (io), 2 RD4/SEG17 (io), 3 RD5/SEG18 (io), 4 RD6/SEG19 (io), 5 RD7/SEG20 (io), 6 VSS (power), 7 VDD (power), 8 VDD (power), 9 RB0/INT/SEG0 (io), 10 RB1/SEG1 (io), 11 RB2/SEG2 (io), 12 RB3/SEG3 (io), 13 NC, 14 RB4/COM0 (io), 15 RB5/COM1 (io), 16 RB6/ICSPCLK/ICDCK/SEG14 (io), 17 RB7/ICSPDAT/ICDDAT/SEG13 (io), 18 RE3/~{MCLR}/VPP (io), 19 RA0/AN0/C1-/SEG12 (io), 20 RA1/AN1/C2-/SEG7 (io), 21 RA2/AN2/C2+/VREF-/COM2 (io), 22 RA3/AN3/C1+/VREF+/SEG15 (io), 23 RA4/C1OUT/T0CKI/SEG4 (io), 24 RA5/AN4/C2OUT/~{SS}/SEG5 (io), 25 RE0/AN5/SEG21 (io), 26 RE1/AN6/SEG22 (io), 27 RE2/AN7/SEG23 (io), 28 VDD (power), 29 NC, 30 VSS (power), 31 VSS (power), 32 RA7/OSC1/CLKIN/T1OSI (io), 33 RA6/OSC2/CLKOUT/T1OSO (io), 34 RC0/VLDC1 (io), 35 RC1/VLCD2 (io), 36 RC2/VLCD3 (io), 37 RC3/SEG6 (io), 38 RD0/COM3 (io), 39 RD1 (io), 40 RD2/CCP2 (io), 41 RD3/SEG16 (io), 42 RC4/~{T1G}/SDO/SEG11 (io), 43 RC5/T1CKI/CCP1/SEG10 (io), 44 RC6/TX/CK/SCK/SCL/SEG9 (io), 45 Thermal Pad

## PIC16F914-E/P
designator U?
Flash-Based, 8-Bit CMOS Microcontroller with LCD Driver and nanoWatt Technology, 4K (x14-Bit words) Program Memory, 512 Bytes Data Memory, 35 I/O pins, 40-Pin PDIP, Standard VDD Range, Extended Temperature; Manufacturer: Microchip; PartNumber: PIC16F914-E/P; DatasheetVersion: revF, May-2007; PackageVersion: revBB, Aug-2009; PackageReference: PDIP600-P40; PackageDescription: 40-Lead Plastic Dual In-Line (P) - 600 mil Body [PDIP]; Supplier 1: Digi-Key; Supplier Part Number 1: PIC16F914-E/P-ND; Supplier 2: Mouser; Supplier Part Number 2: 579-PIC16F914-E/P; ComponentLink1Description: Manufacturer URL; ComponentLink1URL: http://www.microchip.com/; ComponentLink2Description: Datasheet; ComponentLink2URL: http://ww1.microchip.com/downloads/en/DeviceDoc/41250F.pdf; ComponentLink3Description: Package Specification; ComponentLink3URL: http://www.microchip.com/stellent/groups/techpub_sg/documents/packagingspec/en012702.pdf
footprint PDIP600-P40 (DIP, 40-Leads, Row Spacing 15.24mm, Pitch 2.54mm, Body 51.8x13.5mm)
pins: 1 RE3/~{MCLR}/VPP (io), 2 RA0/AN0/C1-/SEG12 (io), 3 RA1/AN1/C2-/SEG7 (io), 4 RA2/AN2/C2+/VREF-/COM2 (io), 5 RA3/AN3/C1+/VREF+/SEG15 (io), 6 RA4/C1OUT/T0CKI/SEG4 (io), 7 RA5/AN4/C2OUT/~{SS}/SEG5 (io), 8 RE0/AN5/SEG21 (io), 9 RE1/AN6/SEG22 (io), 10 RE2/AN7/SEG23 (io), 11 VDD (power), 12 VSS (power), 13 RA7/OSC1/CLKIN/T1OSI (io), 14 RA6/OSC2/CLKOUT/T1OSO (io), 15 RC0/VLCD1 (io), 16 RC1/VLCD2 (io), 17 RC2/VLCD3 (io), 18 RC3/SEG6 (io), 19 RD0/COM3 (io), 20 RD1 (io), 21 RD2/CCP2 (io), 22 RD3/SEG16 (io), 23 RC4/~{T1G}/SDO/SEG11 (io), 24 RC5/T1CKI/CCP1/SEG10 (io), 25 RC6/TX/CK/SCK/SCL/SEG9 (io), 26 RC7/RX/DT/SDI/SDA/SEG8 (io), 27 RD4/SEG17 (io), 28 RD5/SEG18 (io), 29 RD6/SEG19 (io), 30 RD7/SEG20 (io), 31 VSS (power), 32 VDD (power), 33 RB0/INT/SEG0 (io), 34 RB1/SEG1 (io), 35 RB2/SEG2 (io), 36 RB3/SEG3 (io), 37 RB4/COM0 (io), 38 RB5/COM1 (io), 39 RB6/ICSPCLK/ICDCK/SEG14 (io), 40 RB7/ICSPDAT/ICDDAT/SEG13 (io)

## PIC16F914-E/PT
designator U?
Flash-Based, 8-Bit CMOS Microcontroller with LCD Driver and nanoWatt Technology, 4K (x14-Bit words) Program Memory, 512 Bytes Data Memory, 35 I/O pins, 44-Pin TQFP, Standard VDD Range, Extended Temperature; Manufacturer: Microchip; PartNumber: PIC16F914-E/PT; DatasheetVersion: revF, May-2007; PackageVersion: revBB, Aug-2009; PackageReference: TQFP-PT44; PackageDescription: 44-Lead Plastic Thin Quad Flatpack (PT) - 10x10x1mm Body, 2.00mm [TQFP]; Supplier 1: Digi-Key; Supplier Part Number 1: PIC16F914-E/PT-ND; Supplier 2: Mouser; Supplier Part Number 2: 579-PIC16F914-E/PT; Code_JEDEC: MS-026; ComponentLink1Description: Manufacturer URL; ComponentLink1URL: http://www.microchip.com/; ComponentLink2Description: Datasheet; ComponentLink2URL: http://ww1.microchip.com/downloads/en/DeviceDoc/41250F.pdf; ComponentLink3Description: Package Specification; ComponentLink3URL: http://www.microchip.com/stellent/groups/techpub_sg/documents/packagingspec/en012702.pdf
footprint TQFP-PT44_N (Thin QFP, 44-Leads, Body 10x10mm, Pitch 0.8mm, IPC Medium Density)
footprint TQFP-PT44_L (Thin QFP, 44-Leads, Body 10x10mm, Pitch 0.8mm, IPC High Density)
footprint TQFP-PT44_M (Thin QFP, 44-Leads, Body 10x10mm, Pitch 0.8mm, IPC Low Density)
pins: 1 RC7/RX/DT/SDI/SDA/SEG8 (io), 2 RD4/SEG17 (io), 3 RD5/SEG18 (io), 4 RD6/SEG19 (io), 5 RD7/SEG20 (io), 6 VSS (power), 7 VDD (power), 8 RB0/SEG0/INT (io), 9 RB1/SEG1 (io), 10 RB2/SEG2 (io), 11 RB3/SEG3 (io), 12 NC, 13 NC, 14 RB4/COM0 (io), 15 RB5/COM1 (io), 16 RB6/ICSPCLK/ICDCK/SEG14 (io), 17 RB7/ICSPDAT/ICDDAT/SEG13 (io), 18 RE3/~{MCLR}/VPP (io), 19 RA0/C1-/AN0/SEG12 (io), 20 RA1/C2-/AN1/SEG7 (io), 21 RA2/AN2/C2+/VREF-/COM2 (io), 22 RA3/AN3/VREF+/C1+/SEG15 (io), 23 RA4/C1OUT/T0CKI/SEG4 (io), 24 RA5/AN4/C2OUT/~{SS}/SEG5 (io), 25 RE0/AN5/SEG21 (io), 26 RE1/AN6/SEG22 (io), 27 RE2/AN7/SEG23 (io), 28 VDD (power), 29 VSS (power), 30 RA7/OSC1/CLKIN/T1OSI (io), 31 RA6/OSC2/CLKOUT/T1OSO (io), 32 RC0/VLCD1 (io), 33 NC, 34 NC, 35 RC1/VLCD2 (io), 36 RC2/VLCD3 (io), 37 RC3/SEG6 (io), 38 RD0/COM3 (io), 39 RD1 (io), 40 RD2/CCP2 (io), 41 RD3/SEG16 (io), 42 RC4/~{T1G}/SDO/SEG11 (io), 43 RC5/T1CKI/CCP1/SEG10 (io), 44 RC6/TX/CK/SCK/SCL/SEG9 (io)

## PIC16F914-I/ML
designator U?
Flash-Based, 8-Bit CMOS Microcontroller with LCD Driver and nanoWatt Technology, 4K (x14-Bit words) Program Memory, 512 Bytes Data Memory, 35 I/O pins, 44-Pin QFN, Standard VDD Range, Industrial Temperature; Manufacturer: Microchip; PartNumber: PIC16F914-I/ML; DatasheetVersion: revF, May-2007; PackageVersion: revBB, Aug-2009; PackageReference: QFN-ML44; PackageDescription: 44-Lead Plastic Quad Flat, No Lead Package (ML) - 8x8 mm Body [QFN]; Supplier 1: Digi-Key; Supplier Part Number 1: PIC16F914-I/ML-ND; Supplier 2: Mouser; Supplier Part Number 2: 579-PIC16F914-I/ML; Code_JEDEC: MO-220; Code_IPC: QFN65P800X800-44V2; ComponentLink1Description: Manufacturer URL; ComponentLink1URL: http://www.microchip.com/; ComponentLink2Description: Datasheet; ComponentLink2URL: http://ww1.microchip.com/downloads/en/DeviceDoc/41250F.pdf; ComponentLink3Description: Package Specification; ComponentLink3URL: http://www.microchip.com/stellent/groups/techpub_sg/documents/packagingspec/en012702.pdf
footprint QFN-ML44_N (QFN, 44-Leads, Body 8x8mm, Pitch 0.65mm, Thermal Pad 6.8x6.8mm, IPC Medium Density)
footprint QFN-ML44_L (QFN, 44-Leads, Body 8x8mm, Pitch 0.65mm, Thermal Pad 6.8x6.8mm, IPC High Density)
footprint QFN-ML44_M (QFN, 44-Leads, Body 8x8mm, Pitch 0.65mm, Thermal Pad 6.8x6.8mm, IPC Low Density)
pins: 1 RC7/RX/DT/SDI/SDA/SEG8 (io), 2 RD4/SEG17 (io), 3 RD5/SEG18 (io), 4 RD6/SEG19 (io), 5 RD7/SEG20 (io), 6 VSS (power), 7 VDD (power), 8 VDD (power), 9 RB0/INT/SEG0 (io), 10 RB1/SEG1 (io), 11 RB2/SEG2 (io), 12 RB3/SEG3 (io), 13 NC, 14 RB4/COM0 (io), 15 RB5/COM1 (io), 16 RB6/ICSPCLK/ICDCK/SEG14 (io), 17 RB7/ICSPDAT/ICDDAT/SEG13 (io), 18 RE3/~{MCLR}/VPP (io), 19 RA0/AN0/C1-/SEG12 (io), 20 RA1/AN1/C2-/SEG7 (io), 21 RA2/AN2/C2+/VREF-/COM2 (io), 22 RA3/AN3/C1+/VREF+/SEG15 (io), 23 RA4/C1OUT/T0CKI/SEG4 (io), 24 RA5/AN4/C2OUT/~{SS}/SEG5 (io), 25 RE0/AN5/SEG21 (io), 26 RE1/AN6/SEG22 (io), 27 RE2/AN7/SEG23 (io), 28 VDD (power), 29 NC, 30 VSS (power), 31 VSS (power), 32 RA7/OSC1/CLKIN/T1OSI (io), 33 RA6/OSC2/CLKOUT/T1OSO (io), 34 RC0/VLDC1 (io), 35 RC1/VLCD2 (io), 36 RC2/VLCD3 (io), 37 RC3/SEG6 (io), 38 RD0/COM3 (io), 39 RD1 (io), 40 RD2/CCP2 (io), 41 RD3/SEG16 (io), 42 RC4/~{T1G}/SDO/SEG11 (io), 43 RC5/T1CKI/CCP1/SEG10 (io), 44 RC6/TX/CK/SCK/SCL/SEG9 (io), 45 Thermal Pad

## PIC16F914-I/P
designator U?
Flash-Based, 8-Bit CMOS Microcontroller with LCD Driver and nanoWatt Technology, 4K (x14-Bit words) Program Memory, 512 Bytes Data Memory, 35 I/O pins, 40-Pin PDIP, Standard VDD Range, Industrial Temperature; Manufacturer: Microchip; PartNumber: PIC16F914-I/P; DatasheetVersion: revF, May-2007; PackageVersion: revBB, Aug-2009; PackageReference: PDIP600-P40; PackageDescription: 40-Lead Plastic Dual In-Line (P) - 600 mil Body [PDIP]; Supplier 1: Digi-Key; Supplier Part Number 1: PIC16F914-I/P-ND; Supplier 2: Farnell; Supplier Part Number 2: 1292266; Supplier 3: Newark; Supplier Part Number 3: 56J7593; Supplier 4: Mouser; Supplier Part Number 4: 579-PIC16F914-I/P; ComponentLink1Description: Manufacturer URL; ComponentLink1URL: http://www.microchip.com/; ComponentLink2Description: Datasheet; ComponentLink2URL: http://ww1.microchip.com/downloads/en/DeviceDoc/41250F.pdf; ComponentLink3Description: Package Specification; ComponentLink3URL: http://www.microchip.com/stellent/groups/techpub_sg/documents/packagingspec/en012702.pdf
footprint PDIP600-P40 (DIP, 40-Leads, Row Spacing 15.24mm, Pitch 2.54mm, Body 51.8x13.5mm)
pins: 1 RE3/~{MCLR}/VPP (io), 2 RA0/AN0/C1-/SEG12 (io), 3 RA1/AN1/C2-/SEG7 (io), 4 RA2/AN2/C2+/VREF-/COM2 (io), 5 RA3/AN3/C1+/VREF+/SEG15 (io), 6 RA4/C1OUT/T0CKI/SEG4 (io), 7 RA5/AN4/C2OUT/~{SS}/SEG5 (io), 8 RE0/AN5/SEG21 (io), 9 RE1/AN6/SEG22 (io), 10 RE2/AN7/SEG23 (io), 11 VDD (power), 12 VSS (power), 13 RA7/OSC1/CLKIN/T1OSI (io), 14 RA6/OSC2/CLKOUT/T1OSO (io), 15 RC0/VLCD1 (io), 16 RC1/VLCD2 (io), 17 RC2/VLCD3 (io), 18 RC3/SEG6 (io), 19 RD0/COM3 (io), 20 RD1 (io), 21 RD2/CCP2 (io), 22 RD3/SEG16 (io), 23 RC4/~{T1G}/SDO/SEG11 (io), 24 RC5/T1CKI/CCP1/SEG10 (io), 25 RC6/TX/CK/SCK/SCL/SEG9 (io), 26 RC7/RX/DT/SDI/SDA/SEG8 (io), 27 RD4/SEG17 (io), 28 RD5/SEG18 (io), 29 RD6/SEG19 (io), 30 RD7/SEG20 (io), 31 VSS (power), 32 VDD (power), 33 RB0/INT/SEG0 (io), 34 RB1/SEG1 (io), 35 RB2/SEG2 (io), 36 RB3/SEG3 (io), 37 RB4/COM0 (io), 38 RB5/COM1 (io), 39 RB6/ICSPCLK/ICDCK/SEG14 (io), 40 RB7/ICSPDAT/ICDDAT/SEG13 (io)

## PIC16F914-I/PREL
designator U?
Flash-Based, 8-Bit CMOS Microcontroller with LCD Driver and nanoWatt Technology, 4K (x14-Bit words) Program Memory, 512 Bytes Data Memory, 35 I/O pins, 40-Pin PDIP, Standard VDD Range, Industrial Temperature; Manufacturer: Microchip; PartNumber: PIC16F914-I/PREL; DatasheetVersion: revF, May-2007; PackageVersion: revBB, Aug-2009; PackageReference: PDIP600-P40; PackageDescription: 40-Lead Plastic Dual In-Line (P) - 600 mil Body [PDIP]; ComponentLink1Description: Manufacturer URL; ComponentLink1URL: http://www.microchip.com/; ComponentLink2Description: Datasheet; ComponentLink2URL: http://ww1.microchip.com/downloads/en/DeviceDoc/41250F.pdf; ComponentLink3Description: Package Specification; ComponentLink3URL: http://www.microchip.com/stellent/groups/techpub_sg/documents/packagingspec/en012702.pdf
footprint PDIP600-P40 (DIP, 40-Leads, Row Spacing 15.24mm, Pitch 2.54mm, Body 51.8x13.5mm)
pins: 1 RE3/~{MCLR}/VPP (io), 2 RA0/AN0/C1-/SEG12 (io), 3 RA1/AN1/C2-/SEG7 (io), 4 RA2/AN2/C2+/VREF-/COM2 (io), 5 RA3/AN3/C1+/VREF+/SEG15 (io), 6 RA4/C1OUT/T0CKI/SEG4 (io), 7 RA5/AN4/C2OUT/~{SS}/SEG5 (io), 8 RE0/AN5/SEG21 (io), 9 RE1/AN6/SEG22 (io), 10 RE2/AN7/SEG23 (io), 11 VDD (power), 12 VSS (power), 13 RA7/OSC1/CLKIN/T1OSI (io), 14 RA6/OSC2/CLKOUT/T1OSO (io), 15 RC0/VLCD1 (io), 16 RC1/VLCD2 (io), 17 RC2/VLCD3 (io), 18 RC3/SEG6 (io), 19 RD0/COM3 (io), 20 RD1 (io), 21 RD2/CCP2 (io), 22 RD3/SEG16 (io), 23 RC4/~{T1G}/SDO/SEG11 (io), 24 RC5/T1CKI/CCP1/SEG10 (io), 25 RC6/TX/CK/SCK/SCL/SEG9 (io), 26 RC7/RX/DT/SDI/SDA/SEG8 (io), 27 RD4/SEG17 (io), 28 RD5/SEG18 (io), 29 RD6/SEG19 (io), 30 RD7/SEG20 (io), 31 VSS (power), 32 VDD (power), 33 RB0/INT/SEG0 (io), 34 RB1/SEG1 (io), 35 RB2/SEG2 (io), 36 RB3/SEG3 (io), 37 RB4/COM0 (io), 38 RB5/COM1 (io), 39 RB6/ICSPCLK/ICDCK/SEG14 (io), 40 RB7/ICSPDAT/ICDDAT/SEG13 (io)

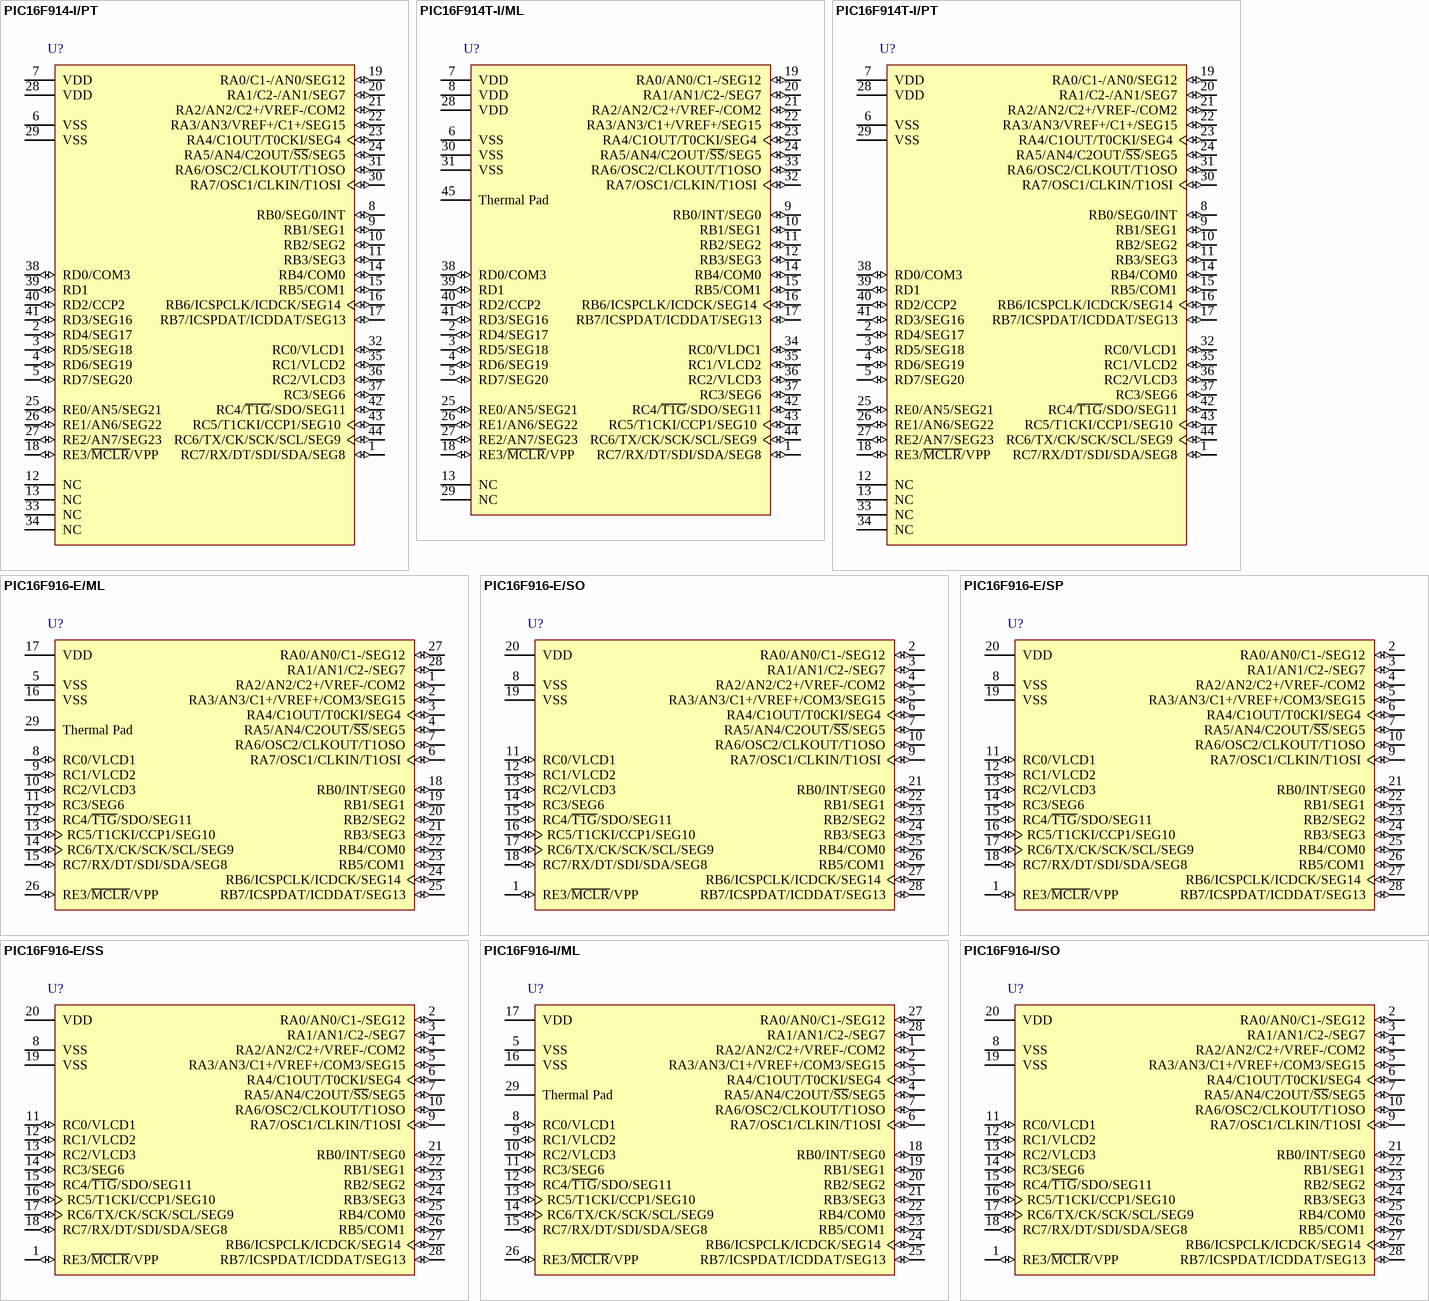
[diagram p73: symbols PIC16F914-I/PT to PIC16F916-I/SO]